# Altium schematic symbol library Schlib1.SchLib: 5 symbols
Pins are listed as number, name and electrical type; pins without a type are passive.

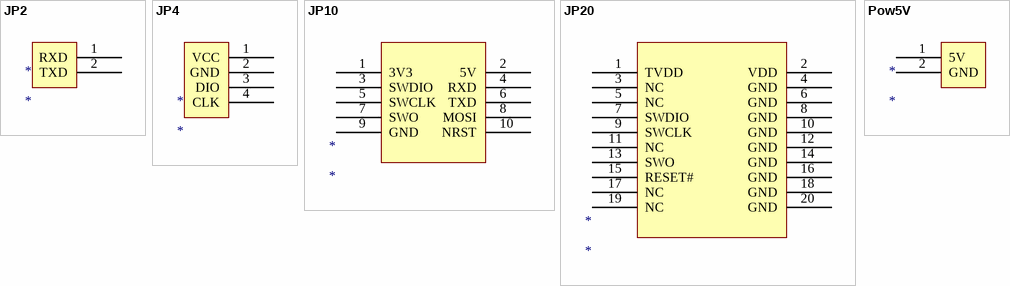
[diagram p0: symbols JP2 to Pow5V]

## JP2
designator *
footprint 2Pin
pins: 1 RXD, 2 TXD

## JP4
designator *
footprint 4Pin
pins: 1 VCC, 2 GND, 3 DIO, 4 CLK

## JP10
designator *
footprint 10P
pins: 1 3V3, 2 5V, 3 SWDIO, 4 RXD, 5 SWCLK, 6 TXD, 7 SWO, 8 MOSI, 9 GND, 10 NRST

## JP20
designator *
footprint 20P
pins: 1 TVDD, 2 VDD, 3 NC, 4 GND, 5 NC, 6 GND, 7 SWDIO, 8 GND, 9 SWCLK, 10 GND, 11 NC, 12 GND, 13 SWO, 14 GND, 15 RESET#, 16 GND, 17 NC, 18 GND, 19 NC, 20 GND

## Pow5V
designator *
footprint 2Pin
pins: 1 5V, 2 GND